# Altium footprint library Microcircuits.PcbLib: 31 footprints (part 1 of 2)
Each footprint in its own frame and in the unit in brackets; x right, y up, seen from the top. Pads: shape width x height; smd on the part's side, far side on the other; paste and mask are expansions set on the pad; w line width, h text height; cw(c..) or ccw(c..) is an arc to the next point about the centre after c.
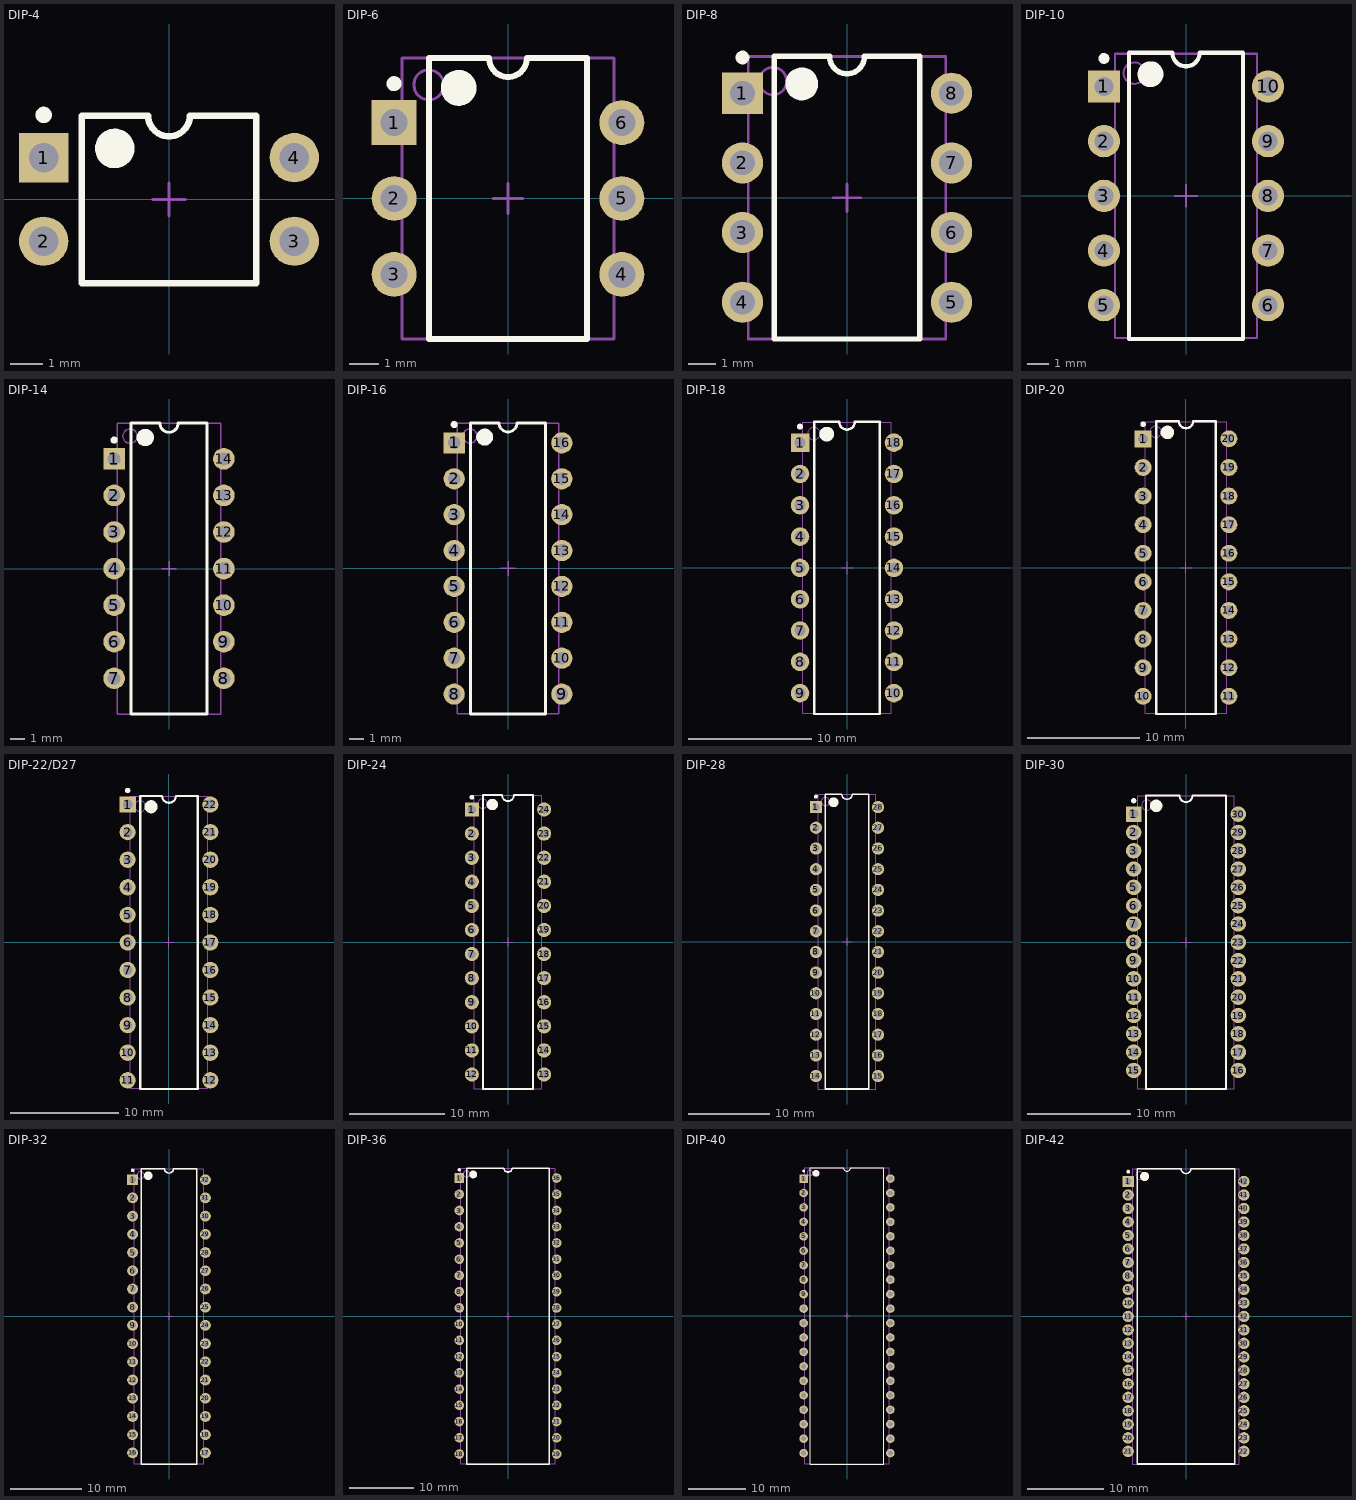
[diagram p0: the footprints below, top view; thin cyan lines are the x and y axes]

## DIP-4 [mm] "DIP, 4-Pin, Row Spacing 7.62 mm, Pitch 2.54 mm"
height 4.57
pads (4):
  rect 1.5x1.5 hole 0.9: 1(-3.81,1.27)
  round 1.5 hole 0.9: 2(-3.81,-1.27) 3(3.81,-1.27) 4(3.81,1.27)
Top Overlay:
  circle w0.25: c-3.81,2.57 r0.125
  circle w0.6: c-1.65,1.55 r0.3
  lines w0.2: -2.65,-2.55 -2.65,2.55 -0.635,2.55 ccw(c0,2.55) 0.635,2.55 2.65,2.55 2.65,-2.55 -2.65,-2.55
Mechanical 15:
  lines w0.1: -0.5,0 0.5,0 ; 0,-0.5 0,0.5
3D body "User Library-DIP4.STEP": height 3.75, standoff -2.55, extent -3.935,-2.297 3.935,2.297

## DIP-6 [mm] "DIP, 6-Pin, Row Spacing 7.62 mm, Pitch 2.54 mm"
height 5.46
pads (6):
  rect 1.5x1.5 hole 0.9: 1(-3.81,2.54)
  round 1.5 hole 0.9: 2(-3.81,0) 3(-3.81,-2.54) 4(3.81,-2.54) 5(3.81,0) 6(3.81,2.54)
Top Overlay:
  circle w0.6: c-1.65,3.7 r0.3
  circle w0.25: c-3.81,3.84 r0.125
  lines w0.2: -2.65,-4.7 2.65,-4.7 2.65,4.7 0.635,4.7 cw(c0,4.7) -0.635,4.7 -2.65,4.7 -2.65,-4.7
Mechanical 13:
  circle w0.1: c-2.65,3.8 r0.5
  lines w0.1: -3.55,-4.7 3.55,-4.7 3.55,4.7 -3.55,4.7 -3.55,-4.7
Mechanical 15:
  lines w0.1: -0.5,0 0.5,0 ; 0,-0.5 0,0.5
3D body: height 5.46, standoff 0, extent -3.55,-4.7 3.55,4.7

## DIP-8 [mm] "DIP, 8-Pin, Row Spacing 7.62 mm, Pitch 2.54 mm"
height 5.33
pads (8):
  rect 1.5x1.5 hole 0.9: 1(-3.81,3.81)
  round 1.5 hole 0.9: 2(-3.81,1.27) 3(-3.81,-1.27) 4(-3.81,-3.81) 5(3.81,-3.81) 6(3.81,-1.27) 7(3.81,1.27) 8(3.81,3.81)
Top Overlay:
  circle w0.25: c-3.81,5.11 r0.125
  circle w0.6: c-1.65,4.15 r0.3
  lines w0.2: -2.65,-5.15 -2.65,5.15 -0.635,5.15 ccw(c0,5.15) 0.635,5.15 2.65,5.15 2.65,-5.15 -2.65,-5.15
Mechanical 13:
  circle w0.1: c-2.7,4.25 r0.5
  lines w0.1: -3.6,-5.15 -3.6,5.15 3.6,5.15 3.6,-5.15 -3.6,-5.15
Mechanical 15:
  lines w0.1: -0.5,0 0.5,0 ; 0,-0.5 0,0.5
3D body: height 5.33, standoff 0, extent -3.6,-5.15 3.6,5.15

## DIP-10 [mm] "DIP, 10-Pin, Row Spacing 7.62 mm, Pitch 2.54 mm"
height 4.42
pads (10):
  rect 1.5x1.5 hole 0.9: 1(-3.81,5.08)
  round 1.5 hole 0.9: 2(-3.81,2.54) 3(-3.81,0) 4(-3.81,-2.54) 5(-3.81,-5.08) 6(3.81,-5.08) 7(3.81,-2.54) 8(3.81,0) 9(3.81,2.54) 10(3.81,5.08)
Top Overlay:
  circle w0.6: c-1.65,5.65 r0.3
  circle w0.25: c-3.81,6.38 r0.125
  lines w0.2: -2.65,-6.65 2.65,-6.65 2.65,6.65 0.635,6.65 cw(c0,6.65) -0.635,6.65 -2.65,6.65 -2.65,-6.65
Mechanical 13:
  circle w0.1: c-2.4,5.7 r0.5
  lines w0.1: -3.3,-6.6 3.3,-6.6 3.3,6.6 -3.3,6.6 -3.3,-6.6
Mechanical 15:
  lines w0.1: -0.5,0 0.5,0 ; 0,-0.5 0,0.5
3D body: height 4.42, standoff 0, extent -3.3,-6.6 3.3,6.6

## DIP-14 [mm] "DIP, 14-Pin, Row Spacing 7.62 mm, Pitch 2.54 mm"
height 5.08
pads (14):
  rect 1.5x1.5 hole 0.9: 1(-3.81,7.62)
  round 1.5 hole 0.9: 2(-3.81,5.08) 3(-3.81,2.54) 4(-3.81,0) 5(-3.81,-2.54) 6(-3.81,-5.08) 7(-3.81,-7.62) 8(3.81,-7.62) 9(3.81,-5.08) 10(3.81,-2.54) 11(3.81,0) 12(3.81,2.54) 13(3.81,5.08) 14(3.81,7.62)
Top Overlay:
  circle w0.6: c-1.65,9.1 r0.3
  circle w0.25: c-3.81,8.92 r0.125
  lines w0.2: -2.65,-10.1 2.65,-10.1 2.65,10.1 0.635,10.1 cw(c0,10.1) -0.635,10.1 -2.65,10.1 -2.65,-10.1
Mechanical 13:
  circle w0.1: c-2.7,9.2 r0.5
  lines w0.1: -3.6,-10.1 3.6,-10.1 3.6,10.1 -3.6,10.1 -3.6,-10.1
Mechanical 15:
  lines w0.1: -0.5,0 0.5,0 ; 0,-0.5 0,0.5
3D body: height 5.08, standoff 0, extent -3.6,-10.1 3.6,10.1

## DIP-16 [mm] "DIP, 16-Pin, Row Spacing 7.62 mm, Pitch 2.54 mm"
height 5.08
pads (16):
  rect 1.5x1.5 hole 0.9: 1(-3.81,8.89)
  round 1.5 hole 0.9: 2(-3.81,6.35) 3(-3.81,3.81) 4(-3.81,1.27) 5(-3.81,-1.27) 6(-3.81,-3.81) 7(-3.81,-6.35) 8(-3.81,-8.89) 9(3.81,-8.89) 10(3.81,-6.35) 11(3.81,-3.81) 12(3.81,-1.27) 13(3.81,1.27) 14(3.81,3.81) 15(3.81,6.35) 16(3.81,8.89)
Top Overlay:
  circle w0.6: c-1.65,9.3 r0.3
  circle w0.25: c-3.81,10.19 r0.125
  lines w0.2: -2.65,-10.3 2.65,-10.3 2.65,10.3 0.635,10.3 cw(c0,10.3) -0.635,10.3 -2.65,10.3 -2.65,-10.3
Mechanical 13:
  circle w0.1: c-2.7,9.375 r0.5
  lines w0.1: -3.6,-10.275 3.6,-10.275 3.6,10.275 -3.6,10.275 -3.6,-10.275
Mechanical 15:
  lines w0.1: -0.5,0 0.5,0 ; 0,-0.5 0,0.5
3D body: height 5.08, standoff 0, extent -3.6,-10.275 3.6,10.275

## DIP-18 [mm] "DIP, 18-Pin, Row Spacing 7.62 mm, Pitch 2.54 mm"
height 5.33
pads (18):
  rect 1.5x1.5 hole 0.9: 1(-3.81,10.16)
  round 1.5 hole 0.9: 2(-3.81,7.62) 3(-3.81,5.08) 4(-3.81,2.54) 5(-3.81,0) 6(-3.81,-2.54) 7(-3.81,-5.08) 8(-3.81,-7.62) 9(-3.81,-10.16) 10(3.81,-10.16) 11(3.81,-7.62) 12(3.81,-5.08) 13(3.81,-2.54) 14(3.81,0) 15(3.81,2.54) 16(3.81,5.08) 17(3.81,7.62) 18(3.81,10.16)
Top Overlay:
  circle w0.6: c-1.65,10.85 r0.3
  circle w0.25: c-3.81,11.46 r0.125
  lines w0.2: -2.65,-11.85 2.65,-11.85 2.65,11.85 0.635,11.85 cw(c0,11.85) -0.635,11.85 -2.65,11.85 -2.65,-11.85
Mechanical 13:
  circle w0.1: c-2.7,10.9 r0.5
  lines w0.1: -3.6,-11.8 3.6,-11.8 3.6,11.8 -3.6,11.8 -3.6,-11.8
Mechanical 15:
  lines w0.1: -0.5,0 0.5,0 ; 0,-0.5 0,0.5
3D body: height 5.33, standoff 0, extent -3.6,-11.8 3.6,11.8

## DIP-20 [mm] "DIP, 20-Pin, Row Spacing 7.62 mm, Pitch 2.54 mm"
height 5.08
pads (20):
  rect 1.5x1.5 hole 0.9: 1(-3.81,11.43)
  round 1.5 hole 0.9: 2(-3.81,8.89) 3(-3.81,6.35) 4(-3.81,3.81) 5(-3.81,1.27) 6(-3.81,-1.27) 7(-3.81,-3.81) 8(-3.81,-6.35) 9(-3.81,-8.89) 10(-3.81,-11.43) 11(3.81,-11.43) 12(3.81,-8.89) 13(3.81,-6.35) 14(3.81,-3.81) 15(3.81,-1.27) 16(3.81,1.27) 17(3.81,3.81) 18(3.81,6.35) 19(3.81,8.89) 20(3.81,11.43)
Top Overlay:
  circle w0.6: c-1.65,12 r0.3
  circle w0.25: c-3.81,12.73 r0.125
  lines w0.2: -2.65,-13 2.65,-13 2.65,13 0.635,13 cw(c0,13) -0.635,13 -2.65,13 -2.65,-13
Mechanical 13:
  circle w0.1: c-2.7,12.05 r0.5
  lines w0.1: -3.6,-12.95 3.6,-12.95 3.6,12.95 -3.6,12.95 -3.6,-12.95
Mechanical 15:
  lines w0.1: -0.5,0 0.5,0 ; 0,-0.5 0,0.5
3D body: height 5.08, standoff 0, extent -3.6,-12.95 3.6,12.95

## DIP-22/D27 [mm] "DIP, Plastic, 22-Pin, Row Spacing 7.62 mm, Pitch 2.54 mm"
height 5.34
pads (22):
  rect 1.5x1.5 hole 0.9: 1(-3.81,12.7)
  round 1.5 hole 0.9: 2(-3.81,10.16) 3(-3.81,7.62) 4(-3.81,5.08) 5(-3.81,2.54) 6(-3.81,0) 7(-3.81,-2.54) 8(-3.81,-5.08) 9(-3.81,-7.62) 10(-3.81,-10.16) 11(-3.81,-12.7) 12(3.81,-12.7) 13(3.81,-10.16) 14(3.81,-7.62) 15(3.81,-5.08) 16(3.81,-2.54) 17(3.81,0) 18(3.81,2.54) 19(3.81,5.08) 20(3.81,7.62) 21(3.81,10.16) 22(3.81,12.7)
Top Overlay:
  circle w0.6: c-1.65,12.5 r0.3
  circle w0.25: c-3.81,14 r0.125
  lines w0.2: -2.65,-13.5 2.65,-13.5 2.65,13.5 0.635,13.5 cw(c0,13.5) -0.635,13.5 -2.65,13.5 -2.65,-13.5
Mechanical 13:
  circle w0.1: c-2.65,12.55 r0.5
  lines w0.1: -3.55,-13.45 3.55,-13.45 3.55,13.45 -3.55,13.45 -3.55,-13.45
Mechanical 15:
  lines w0.1: -0.5,0 0.5,0 ; 0,-0.5 0,0.5
3D body: height 5.34, standoff 0, extent -3.55,-13.45 3.55,13.45

## DIP-24 [mm] "DIP, 24-Pin, Row Spacing 7.62 mm, Pitch 2.54 mm"
height 4.06
pads (24):
  rect 1.5x1.5 hole 0.9: 1(-3.81,13.97)
  round 1.5 hole 0.9: 2(-3.81,11.43) 3(-3.81,8.89) 4(-3.81,6.35) 5(-3.81,3.81) 6(-3.81,1.27) 7(-3.81,-1.27) 8(-3.81,-3.81) 9(-3.81,-6.35) 10(-3.81,-8.89) 11(-3.81,-11.43) 12(-3.81,-13.97) 13(3.81,-13.97) 14(3.81,-11.43) 15(3.81,-8.89) 16(3.81,-6.35) 17(3.81,-3.81) 18(3.81,-1.27) 19(3.81,1.27) 20(3.81,3.81) 21(3.81,6.35) 22(3.81,8.89) 23(3.81,11.43) 24(3.81,13.97)
Top Overlay:
  circle w0.6: c-1.65,14.5 r0.3
  circle w0.25: c-3.81,15.27 r0.125
  lines w0.2: -2.65,-15.5 2.65,-15.5 2.65,15.5 0.635,15.5 cw(c0,15.5) -0.635,15.5 -2.65,15.5 -2.65,-15.5
Mechanical 13:
  circle w0.1: c-2.675,14.6 r0.5
  lines w0.1: -3.575,-15.5 3.575,-15.5 3.575,15.5 -3.575,15.5 -3.575,-15.5
Mechanical 15:
  lines w0.1: -0.5,0 0.5,0 ; 0,-0.5 0,0.5
3D body: height 4.06, standoff 0, extent -3.575,-15.5 3.575,15.5

## DIP-28 [mm] "DIP, 28-Pin, Row Spacing 7.62 mm, Pitch 2.54 mm"
height 5.33
pads (28):
  rect 1.5x1.5 hole 0.9: 1(-3.81,16.51)
  round 1.5 hole 0.9: 2(-3.81,13.97) 3(-3.81,11.43) 4(-3.81,8.89) 5(-3.81,6.35) 6(-3.81,3.81) 7(-3.81,1.27) 8(-3.81,-1.27) 9(-3.81,-3.81) 10(-3.81,-6.35) 11(-3.81,-8.89) 12(-3.81,-11.43) 13(-3.81,-13.97) 14(-3.81,-16.51) 15(3.81,-16.51) 16(3.81,-13.97) 17(3.81,-11.43) 18(3.81,-8.89) 19(3.81,-6.35) 20(3.81,-3.81) 21(3.81,-1.27) 22(3.81,1.27) 23(3.81,3.81) 24(3.81,6.35) 25(3.81,8.89) 26(3.81,11.43) 27(3.81,13.97) 28(3.81,16.51)
Top Overlay:
  circle w0.6: c-1.65,17.1 r0.3
  circle w0.25: c-3.81,17.81 r0.125
  lines w0.2: -2.65,-18.1 2.65,-18.1 2.65,18.1 0.635,18.1 cw(c0,18.1) -0.635,18.1 -2.65,18.1 -2.65,-18.1
Mechanical 13:
  circle w0.1: c-2.65,17.2 r0.5
  lines w0.1: -3.55,-18.1 3.55,-18.1 3.55,18.1 -3.55,18.1 -3.55,-18.1
Mechanical 15:
  lines w0.1: -0.5,0 0.5,0 ; 0,-0.5 0,0.5
3D body: height 5.33, standoff 0, extent -3.55,-18.1 3.55,18.1

## DIP-30 [mm] "DIP, Plastic, 30-Pin, Row Spacing 10.16 mm, Pitch 1.778 mm"
height 5.08
pads (30):
  rect 1.5x1.5 hole 0.9: 1(-5.08,12.446)
  round 1.5 hole 0.9: 2(-5.08,10.668) 3(-5.08,8.89) 4(-5.08,7.112) 5(-5.08,5.334) 6(-5.08,3.556) 7(-5.08,1.778) 8(-5.08,0) 9(-5.08,-1.778) 10(-5.08,-3.556) 11(-5.08,-5.334) 12(-5.08,-7.112) 13(-5.08,-8.89) 14(-5.08,-10.668) 15(-5.08,-12.446) 16(5.08,-12.446) 17(5.08,-10.668) 18(5.08,-8.89) 19(5.08,-7.112) 20(5.08,-5.334) 21(5.08,-3.556) 22(5.08,-1.778) 23(5.08,0) 24(5.08,1.778) 25(5.08,3.556) 26(5.08,5.334) 27(5.08,7.112) 28(5.08,8.89) 29(5.08,10.668) 30(5.08,12.446)
Top Overlay:
  circle w0.6: c-2.9,13.25 r0.3
  circle w0.25: c-5.08,13.746 r0.125
  lines w0.2: -3.9,-14.25 3.9,-14.25 3.9,14.25 0.635,14.25 cw(c0,14.25) -0.635,14.25 -3.9,14.25 -3.9,-14.25
Mechanical 13:
  circle w0.1: c-3.8,13.325 r0.5
  lines w0.1: -4.7,-14.225 4.7,-14.225 4.7,14.225 -4.7,14.225 -4.7,-14.225
Mechanical 15:
  lines w0.1: -0.5,0 0.5,0 ; 0,-0.5 0,0.5
3D body: height 5.08, standoff 0, extent -4.7,-14.225 4.7,14.225

## DIP-32 [mm] "DIP, Plastic, 32-Pin, Row Spacing 10.16 mm, Pitch 2.54 mm"
height 5.34
pads (32):
  rect 1.5x1.5 hole 0.9: 1(-5.08,19.05)
  round 1.5 hole 0.9: 2(-5.08,16.51) 3(-5.08,13.97) 4(-5.08,11.43) 5(-5.08,8.89) 6(-5.08,6.35) 7(-5.08,3.81) 8(-5.08,1.27) 9(-5.08,-1.27) 10(-5.08,-3.81) 11(-5.08,-6.35) 12(-5.08,-8.89) 13(-5.08,-11.43) 14(-5.08,-13.97) 15(-5.08,-16.51) 16(-5.08,-19.05) 17(5.08,-19.05) 18(5.08,-16.51) 19(5.08,-13.97) 20(5.08,-11.43) 21(5.08,-8.89) 22(5.08,-6.35) 23(5.08,-3.81) 24(5.08,-1.27) 25(5.08,1.27) 26(5.08,3.81) 27(5.08,6.35) 28(5.08,8.89) 29(5.08,11.43) 30(5.08,13.97) 31(5.08,16.51) 32(5.08,19.05)
Top Overlay:
  circle w0.25: c-5.08,20.35 r0.125
  circle w0.6: c-2.9,19.6 r0.3
  lines w0.2: -3.9,-20.6 -3.9,20.6 -0.635,20.6 ccw(c0,20.6) 0.635,20.6 3.9,20.6 3.9,-20.6 -3.9,-20.6
Mechanical 13:
  circle w0.1: c-3.975,19.675 r0.5
  lines w0.1: -4.875,-20.575 -4.875,20.575 4.875,20.575 4.875,-20.575 -4.875,-20.575
Mechanical 15:
  lines w0.1: -0.5,0 0.5,0 ; 0,-0.5 0,0.5
3D body: height 5.34, standoff 0, extent -4.875,-20.575 4.875,20.575

## DIP-36 [mm] "DIP, Ceramic, 36-Pin, Row Spacing 15.24 mm, Pitch 2.54 mm"
height 5.08
pads (36):
  rect 1.5x1.5 hole 0.9: 1(-7.62,21.59)
  round 1.5 hole 0.9: 2(-7.62,19.05) 3(-7.62,16.51) 4(-7.62,13.97) 5(-7.62,11.43) 6(-7.62,8.89) 7(-7.62,6.35) 8(-7.62,3.81) 9(-7.62,1.27) 10(-7.62,-1.27) 11(-7.62,-3.81) 12(-7.62,-6.35) 13(-7.62,-8.89) 14(-7.62,-11.43) 15(-7.62,-13.97) 16(-7.62,-16.51) 17(-7.62,-19.05) 18(-7.62,-21.59) 19(7.62,-21.59) 20(7.62,-19.05) 21(7.62,-16.51) 22(7.62,-13.97) 23(7.62,-11.43) 24(7.62,-8.89) 25(7.62,-6.35) 26(7.62,-3.81) 27(7.62,-1.27) 28(7.62,1.27) 29(7.62,3.81) 30(7.62,6.35) 31(7.62,8.89) 32(7.62,11.43) 33(7.62,13.97) 34(7.62,16.51) 35(7.62,19.05) 36(7.62,21.59)
Top Overlay:
  circle w0.6: c-5.45,22.15 r0.3
  circle w0.25: c-7.62,22.89 r0.125
  lines w0.2: -6.45,-23.15 6.45,-23.15 6.45,23.15 0.635,23.15 cw(c0,23.15) -0.635,23.15 -6.45,23.15 -6.45,-23.15
Mechanical 13:
  circle w0.1: c-6.5,22.225 r0.5
  lines w0.1: -7.4,-23.125 7.4,-23.125 7.4,23.125 -7.4,23.125 -7.4,-23.125
Mechanical 15:
  lines w0.1: -0.5,0 0.5,0 ; 0,-0.5 0,0.5
3D body: height 5.08, standoff 0, extent -7.4,-23.125 7.4,23.125

## DIP-40 [mm] "DIP, 40-Pin, Row Spacing 15.24 mm, Pitch 2.54 mm"
height 5.08
pads (40):
  rect 1.5x1.5 hole 0.9: 1(-7.62,24.13)
  round 1.5 hole 0.9: 2(-7.62,21.59) 3(-7.62,19.05) 4(-7.62,16.51) 5(-7.62,13.97) 6(-7.62,11.43) 7(-7.62,8.89) 8(-7.62,6.35) 9(-7.62,3.81) 10(-7.62,1.27) 11(-7.62,-1.27) 12(-7.62,-3.81) 13(-7.62,-6.35) 14(-7.62,-8.89) 15(-7.62,-11.43) 16(-7.62,-13.97) 17(-7.62,-16.51) 18(-7.62,-19.05) 19(-7.62,-21.59) 20(-7.62,-24.13) 21(7.62,-24.13) 22(7.62,-21.59) 23(7.62,-19.05) 24(7.62,-16.51) 25(7.62,-13.97) 26(7.62,-11.43) 27(7.62,-8.89) 28(7.62,-6.35) 29(7.62,-3.81) 30(7.62,-1.27) 31(7.62,1.27) 32(7.62,3.81) 33(7.62,6.35) 34(7.62,8.89) 35(7.62,11.43) 36(7.62,13.97) 37(7.62,16.51) 38(7.62,19.05) 39(7.62,21.59) 40(7.62,24.13)
Top Overlay:
  circle w0.25: c-7.62,25.43 r0.125
  circle w0.6: c-5.45,25.05 r0.3
  lines w0.2: -6.45,-26.05 -6.45,26.05 -0.635,26.05 ccw(c0,26.05) 0.635,26.05 6.45,26.05 6.45,-26.05 -6.45,-26.05
Mechanical 13:
  circle w0.1: c-6.525,25.125 r0.5
  lines w0.1: -7.425,-26.025 -7.425,26.025 7.425,26.025 7.425,-26.025 -7.425,-26.025
Mechanical 15:
  lines w0.1: -0.5,0 0.5,0 ; 0,-0.5 0,0.5
3D body: height 5.08, standoff 0, extent -7.425,-26.025 7.425,26.025

## DIP-42 [mm] "DIP, 42-Pin, Row Spacing 15.24 mm, Pitch 1.778 mm"
height 5.1
pads (42):
  rect 1.5x1.5 hole 0.9: 1(-7.62,17.78)
  round 1.5 hole 0.9: 2(-7.62,16.002) 3(-7.62,14.224) 4(-7.62,12.446) 5(-7.62,10.668) 6(-7.62,8.89) 7(-7.62,7.112) 8(-7.62,5.334) 9(-7.62,3.556) 10(-7.62,1.778) 11(-7.62,0) 12(-7.62,-1.778) 13(-7.62,-3.556) 14(-7.62,-5.334) 15(-7.62,-7.112) 16(-7.62,-8.89) 17(-7.62,-10.668) 18(-7.62,-12.446) 19(-7.62,-14.224) 20(-7.62,-16.002) 21(-7.62,-17.78) 22(7.62,-17.78) 23(7.62,-16.002) 24(7.62,-14.224) 25(7.62,-12.446) 26(7.62,-10.668) 27(7.62,-8.89) 28(7.62,-7.112) 29(7.62,-5.334) 30(7.62,-3.556) 31(7.62,-1.778) 32(7.62,0) 33(7.62,1.778) 34(7.62,3.556) 35(7.62,5.334) 36(7.62,7.112) 37(7.62,8.89) 38(7.62,10.668) 39(7.62,12.446) 40(7.62,14.224) 41(7.62,16.002) 42(7.62,17.78)
Top Overlay:
  circle w0.6: c-5.45,18.45 r0.3
  circle w0.25: c-7.62,19.08 r0.125
  lines w0.2: -6.45,-19.45 6.45,-19.45 6.45,19.45 0.635,19.45 cw(c0,19.45) -0.635,19.45 -6.45,19.45 -6.45,-19.45
Mechanical 13:
  circle w0.1: c-6.1,18.55 r0.5
  lines w0.1: -7,-19.45 7,-19.45 7,19.45 -7,19.45 -7,-19.45
Mechanical 15:
  lines w0.1: -0.5,0 0.5,0 ; 0,-0.5 0,0.5
3D body: height 5.1, standoff 0, extent -7,-19.45 7,19.45